# Altium integrated library Lattice FPGA XP2.IntLib: 160 symbols (part 4 of 35)
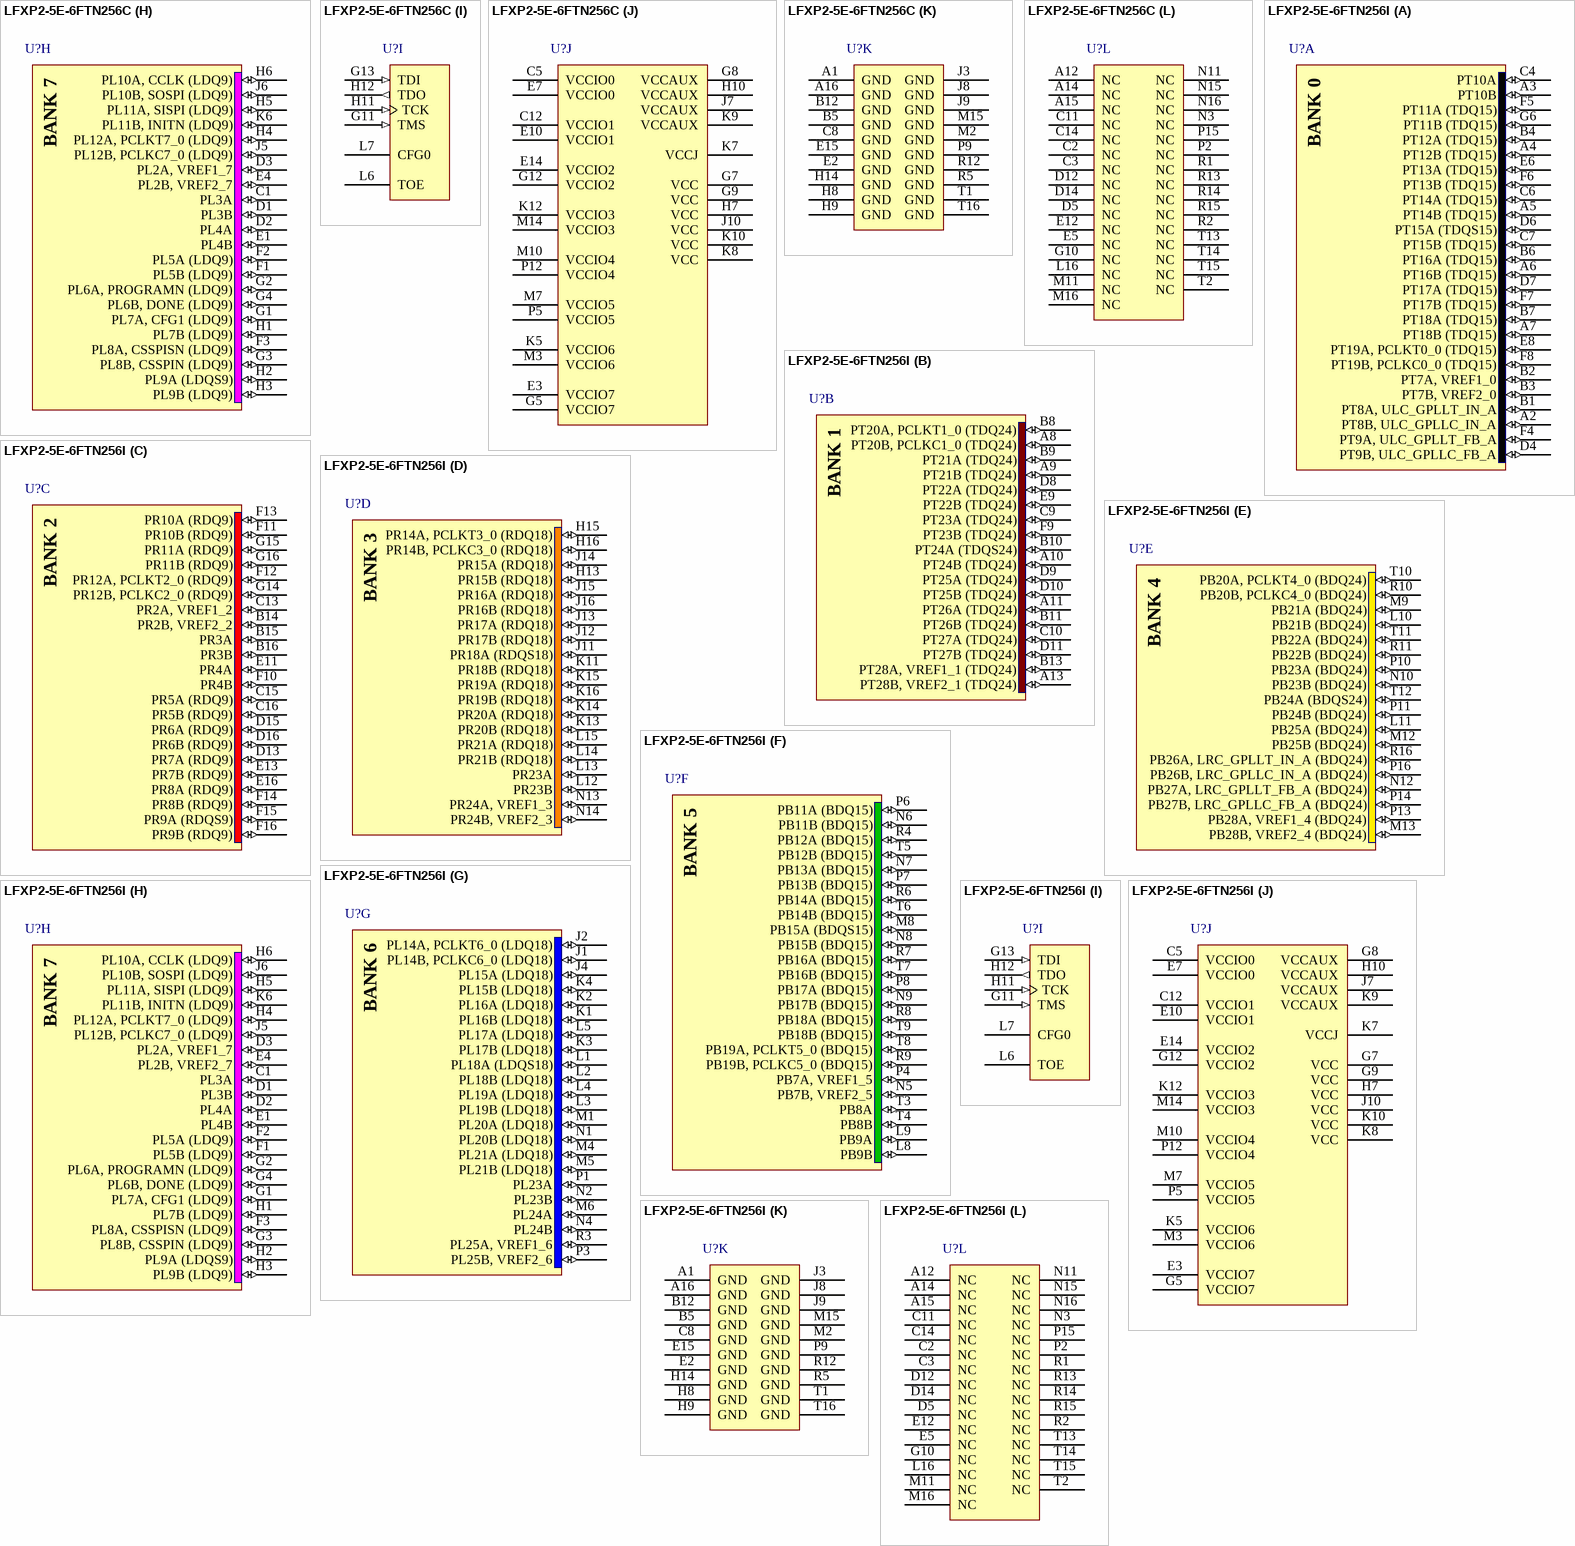
[diagram p274: symbols LFXP2-5E-6FTN256C to LFXP2-5E-6FTN256I]

## LFXP2-5E-6FTN256I
designator U?
XP2, 1.2V FPGA, 172 I/Os, 5K LUTs, 256-Pin ftBGA, Speed Grade 6, Industrial Grade, Pb-Free; DatasheetVersion: ver01.8, Jun-2008; PackageVersion: ver02.8, Jul-2011; PackageReference: ftBGA256; PackageDescription: 256-Ball Fine Thin Ball Grid Array (ftBGA256); ComponentLink1Description: Manufacturer URL; ComponentLink1URL: http://www.latticesemi.com/; ComponentLink2Description: Datasheet; ComponentLink2URL: http://www.latticesemi.com/documents/DS1009.pdf; ComponentLink3Description: Package Specification; ComponentLink3URL: http://www.latticesemi.com/lit/docs/package/pkg.pdf
footprint ftBGA256 (BGA, 256-Leads, Body 17x17mm, Pitch 1mm)
part A pins: A2 PT8B, ULC_GPLLC_IN_A (io), A3 PT10B (io), A4 PT12B (TDQ15) (io), A5 PT14B (TDQ15) (io), A6 PT16B (TDQ15) (io), A7 PT18B (TDQ15) (io), B1 PT8A, ULC_GPLLT_IN_A (io), B2 PT7A, VREF1_0 (io), B3 PT7B, VREF2_0 (io), B4 PT12A (TDQ15) (io), B6 PT16A (TDQ15) (io), B7 PT18A (TDQ15) (io), C4 PT10A (io), C6 PT14A (TDQ15) (io), C7 PT15B (TDQ15) (io), D4 PT9B, ULC_GPLLC_FB_A (io), D6 PT15A (TDQS15) (io), D7 PT17A (TDQ15) (io), E6 PT13A (TDQ15) (io), E8 PT19A, PCLKT0_0 (TDQ15) (io), F4 PT9A, ULC_GPLLT_FB_A (io), F5 PT11A (TDQ15) (io), F6 PT13B (TDQ15) (io), F7 PT17B (TDQ15) (io), F8 PT19B, PCLKC0_0 (TDQ15) (io), G6 PT11B (TDQ15) (io)
part B pins: A8 PT20B, PCLKC1_0 (TDQ24) (io), A9 PT21B (TDQ24) (io), A10 PT24B (TDQ24) (io), A11 PT26A (TDQ24) (io), A13 PT28B, VREF2_1 (TDQ24) (io), B8 PT20A, PCLKT1_0 (TDQ24) (io), B9 PT21A (TDQ24) (io), B10 PT24A (TDQS24) (io), B11 PT26B (TDQ24) (io), B13 PT28A, VREF1_1 (TDQ24) (io), C9 PT23A (TDQ24) (io), C10 PT27A (TDQ24) (io), D8 PT22A (TDQ24) (io), D9 PT25A (TDQ24) (io), D10 PT25B (TDQ24) (io), D11 PT27B (TDQ24) (io), E9 PT22B (TDQ24) (io), F9 PT23B (TDQ24) (io)
part C pins: B14 PR2B, VREF2_2 (io), B15 PR3A (io), B16 PR3B (io), C13 PR2A, VREF1_2 (io), C15 PR5A (RDQ9) (io), C16 PR5B (RDQ9) (io), D13 PR7A (RDQ9) (io), D15 PR6A (RDQ9) (io), D16 PR6B (RDQ9) (io), E11 PR4A (io), E13 PR7B (RDQ9) (io), E16 PR8A (RDQ9) (io), F10 PR4B (io), F11 PR10B (RDQ9) (io), F12 PR12A, PCLKT2_0 (RDQ9) (io), F13 PR10A (RDQ9) (io), F14 PR8B (RDQ9) (io), F15 PR9A (RDQS9) (io), F16 PR9B (RDQ9) (io), G14 PR12B, PCLKC2_0 (RDQ9) (io), G15 PR11A (RDQ9) (io), G16 PR11B (RDQ9) (io)
part D pins: H13 PR15B (RDQ18) (io), H15 PR14A, PCLKT3_0 (RDQ18) (io), H16 PR14B, PCLKC3_0 (RDQ18) (io), J11 PR18A (RDQS18) (io), J12 PR17B (RDQ18) (io), J13 PR17A (RDQ18) (io), J14 PR15A (RDQ18) (io), J15 PR16A (RDQ18) (io), J16 PR16B (RDQ18) (io), K11 PR18B (RDQ18) (io), K13 PR20B (RDQ18) (io), K14 PR20A (RDQ18) (io), K15 PR19A (RDQ18) (io), K16 PR19B (RDQ18) (io), L12 PR23B (io), L13 PR23A (io), L14 PR21B (RDQ18) (io), L15 PR21A (RDQ18) (io), N13 PR24A, VREF1_3 (io), N14 PR24B, VREF2_3 (io)
part E pins: L10 PB21B (BDQ24) (io), L11 PB25A (BDQ24) (io), M9 PB21A (BDQ24) (io), M12 PB25B (BDQ24) (io), M13 PB28B, VREF2_4 (BDQ24) (io), N10 PB23B (BDQ24) (io), N12 PB27A, LRC_GPLLT_FB_A (BDQ24) (io), P10 PB23A (BDQ24) (io), P11 PB24B (BDQ24) (io), P13 PB28A, VREF1_4 (BDQ24) (io), P14 PB27B, LRC_GPLLC_FB_A (BDQ24) (io), P16 PB26B, LRC_GPLLC_IN_A (BDQ24) (io), R10 PB20B, PCLKC4_0 (BDQ24) (io), R11 PB22B (BDQ24) (io), R16 PB26A, LRC_GPLLT_IN_A (BDQ24) (io), T10 PB20A, PCLKT4_0 (BDQ24) (io), T11 PB22A (BDQ24) (io), T12 PB24A (BDQS24) (io)
part F pins: L8 PB9B (io), L9 PB9A (io), M8 PB15A (BDQS15) (io), N5 PB7B, VREF2_5 (io), N6 PB11B (BDQ15) (io), N7 PB13A (BDQ15) (io), N8 PB15B (BDQ15) (io), N9 PB17B (BDQ15) (io), P4 PB7A, VREF1_5 (io), P6 PB11A (BDQ15) (io), P7 PB13B (BDQ15) (io), P8 PB17A (BDQ15) (io), R4 PB12A (BDQ15) (io), R6 PB14A (BDQ15) (io), R7 PB16A (BDQ15) (io), R8 PB18A (BDQ15) (io), R9 PB19B, PCLKC5_0 (BDQ15) (io), T3 PB8A (io), T4 PB8B (io), T5 PB12B (BDQ15) (io), T6 PB14B (BDQ15) (io), T7 PB16B (BDQ15) (io), T8 PB19A, PCLKT5_0 (BDQ15) (io), T9 PB18B (BDQ15) (io)
part G pins: J1 PL14B, PCLKC6_0 (LDQ18) (io), J2 PL14A, PCLKT6_0 (LDQ18) (io), J4 PL15A (LDQ18) (io), K1 PL16B (LDQ18) (io), K2 PL16A (LDQ18) (io), K3 PL17B (LDQ18) (io), K4 PL15B (LDQ18) (io), L1 PL18A (LDQS18) (io), L2 PL18B (LDQ18) (io), L3 PL19B (LDQ18) (io), L4 PL19A (LDQ18) (io), L5 PL17A (LDQ18) (io), M1 PL20A (LDQ18) (io), M4 PL21A (LDQ18) (io), M5 PL21B (LDQ18) (io), M6 PL24A (io), N1 PL20B (LDQ18) (io), N2 PL23B (io), N4 PL24B (io), P1 PL23A (io), P3 PL25B, VREF2_6 (io), R3 PL25A, VREF1_6 (io)
part H pins: C1 PL3A (io), D1 PL3B (io), D2 PL4A (io), D3 PL2A, VREF1_7 (io), E1 PL4B (io), E4 PL2B, VREF2_7 (io), F1 PL5B (LDQ9) (io), F2 PL5A (LDQ9) (io), F3 PL8A, CSSPISN (LDQ9) (io), G1 PL7A, CFG1 (LDQ9) (io), G2 PL6A, PROGRAMN (LDQ9) (io), G3 PL8B, CSSPIN (LDQ9) (io), G4 PL6B, DONE (LDQ9) (io), H1 PL7B (LDQ9) (io), H2 PL9A (LDQS9) (io), H3 PL9B (LDQ9) (io), H4 PL12A, PCLKT7_0 (LDQ9) (io), H5 PL11A, SISPI (LDQ9) (io), H6 PL10A, CCLK (LDQ9) (io), J5 PL12B, PCLKC7_0 (LDQ9) (io), J6 PL10B, SOSPI (LDQ9) (io), K6 PL11B, INITN (LDQ9) (io)
part I pins: G11 TMS (in), G13 TDI (in), H11 TCK (in), H12 TDO (out), L6 TOE, L7 CFG0
part J pins: C5 VCCIO0 (power), C12 VCCIO1 (power), E3 VCCIO7 (power), E7 VCCIO0 (power), E10 VCCIO1 (power), E14 VCCIO2 (power), G5 VCCIO7 (power), G7 VCC (power), G8 VCCAUX (power), G9 VCC (power), G12 VCCIO2 (power), H7 VCC (power), H10 VCCAUX (power), J7 VCCAUX (power), J10 VCC (power), K5 VCCIO6 (power), K7 VCCJ (power), K8 VCC (power), K9 VCCAUX (power), K10 VCC (power), K12 VCCIO3 (power), M3 VCCIO6 (power), M7 VCCIO5 (power), M10 VCCIO4 (power), M14 VCCIO3 (power), P5 VCCIO5 (power), P12 VCCIO4 (power)
part K pins: A1 GND (power), A16 GND (power), B5 GND (power), B12 GND (power), C8 GND (power), E2 GND (power), E15 GND (power), H8 GND (power), H9 GND (power), H14 GND (power), J3 GND (power), J8 GND (power), J9 GND (power), M2 GND (power), M15 GND (power), P9 GND (power), R5 GND (power), R12 GND (power), T1 GND (power), T16 GND (power)
part L pins: A12 NC, A14 NC, A15 NC, C2 NC, C3 NC, C11 NC, C14 NC, D5 NC, D12 NC, D14 NC, E5 NC, E12 NC, G10 NC, L16 NC, M11 NC, M16 NC, N3 NC, N11 NC, N15 NC, N16 NC, P2 NC, P15 NC, R1 NC, R2 NC, R13 NC, R14 NC, R15 NC, T2 NC, T13 NC, T14 NC, T15 NC
part A text: BANK 0
part B text: BANK 1
part C text: BANK 2
part D text: BANK 3
part E text: BANK 4
part F text: BANK 5
part G text: BANK 6
part H text: BANK 7

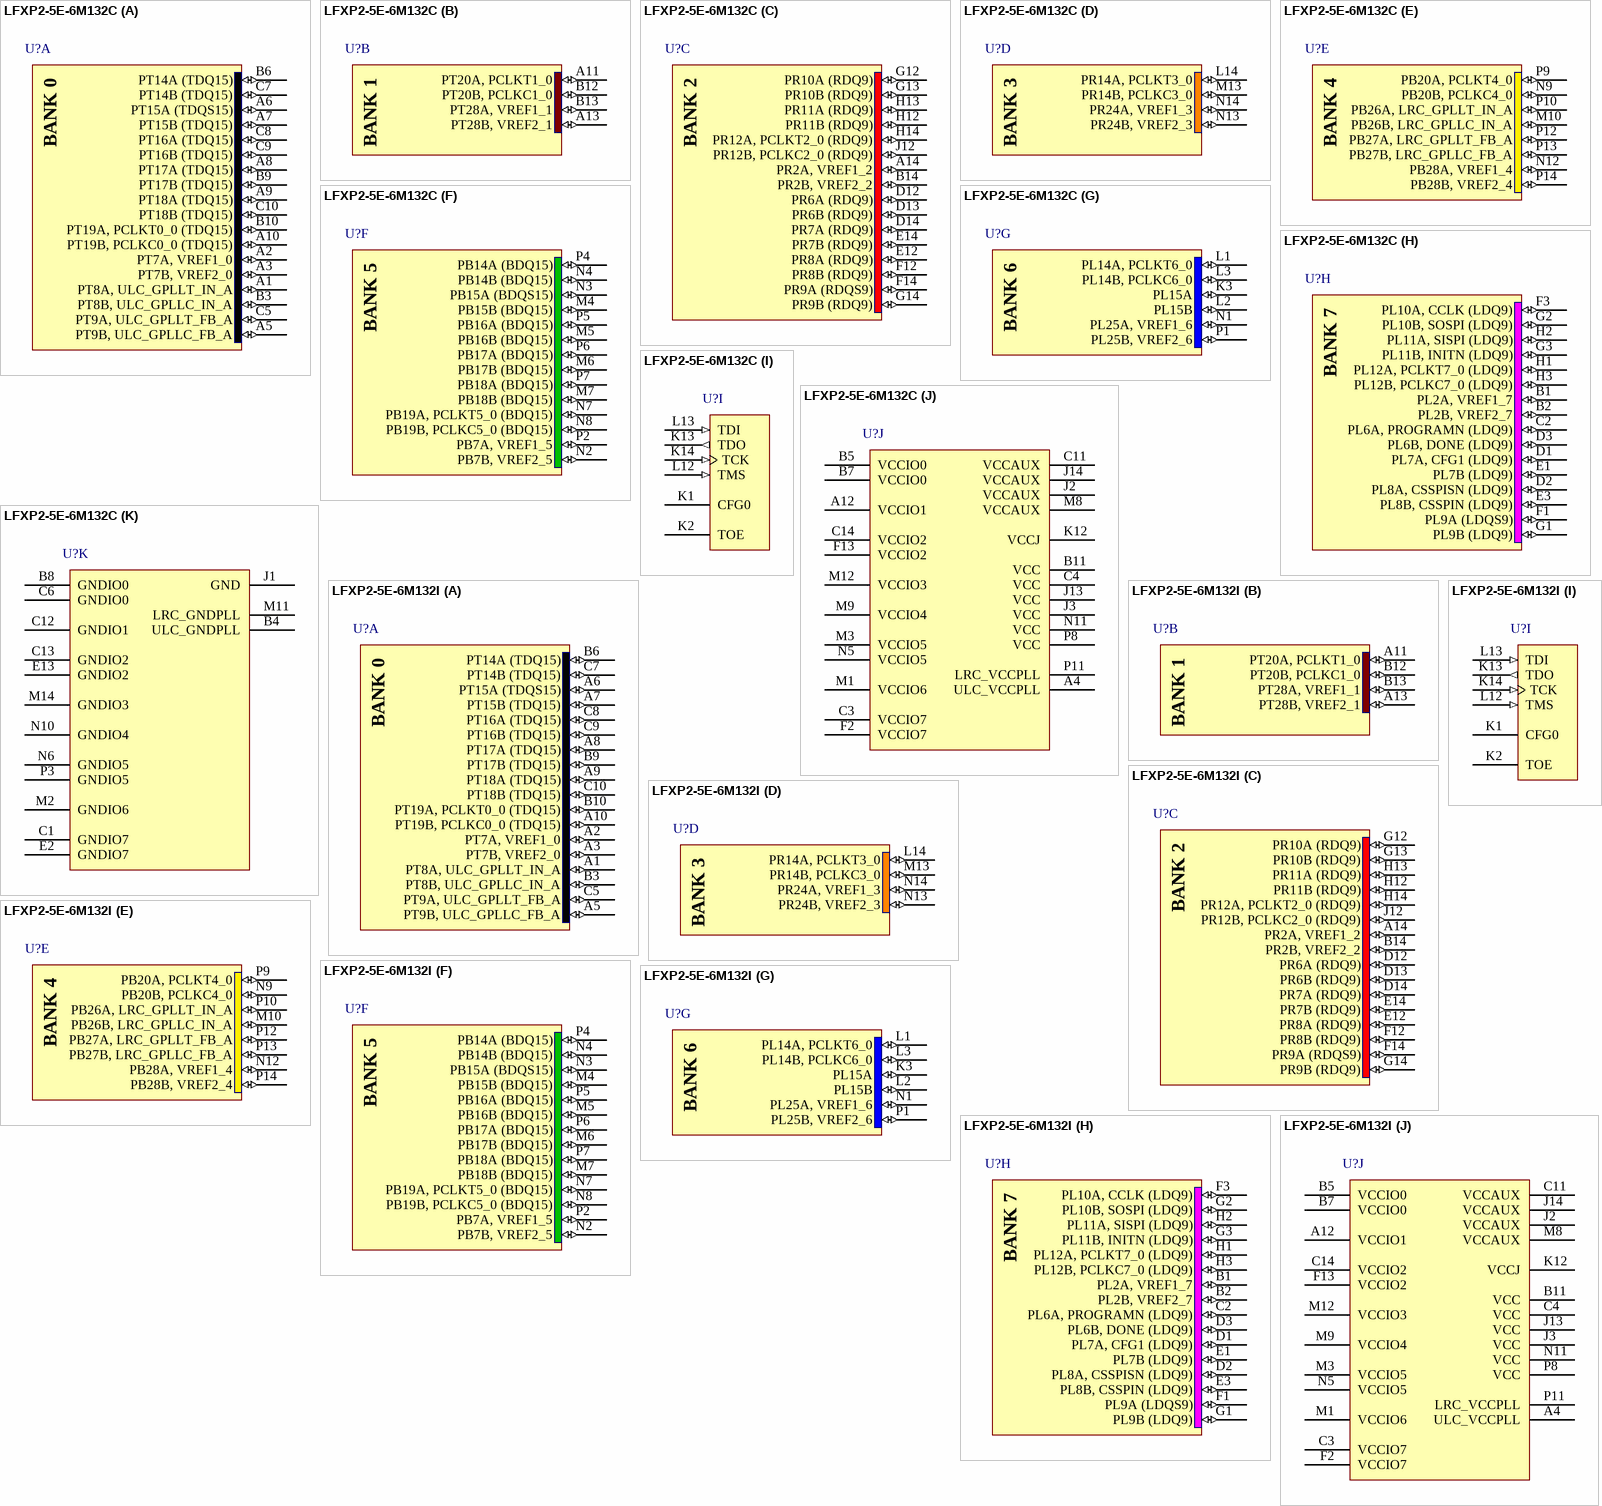
[diagram p13: symbols LFXP2-5E-6M132C to LFXP2-5E-6M132I]